# Altium schematic symbol library PTPSM863257RDXR.SchLib: 1 symbol
Pins are listed as number, name and electrical type; pins without a type are passive.

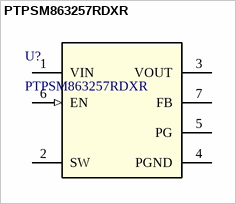
[diagram p0: symbol PTPSM863257RDXR]

## PTPSM863257RDXR
designator U?
3-V to 17-V input voltage, 3-A forced-CCM synchronous buck module 7-QFN-FCMOD -40 to 125; Manufacturer_Name: Texas Instruments; TYPE: TYPE; RefDes: RefDes; Copyright: Copyright (C) 2026 Ultra Librarian. All rights reserved.; Manufacturer_Part_Number: PTPSM863257RDXR
footprint RDX0007A-MFG
pins: 1 VIN (power), 2 SW, 3 VOUT (power), 4 PGND (power), 5 PG (oc), 6 EN (in), 7 FB